# EAGLE library part MAX6971 (library Maxim6971)
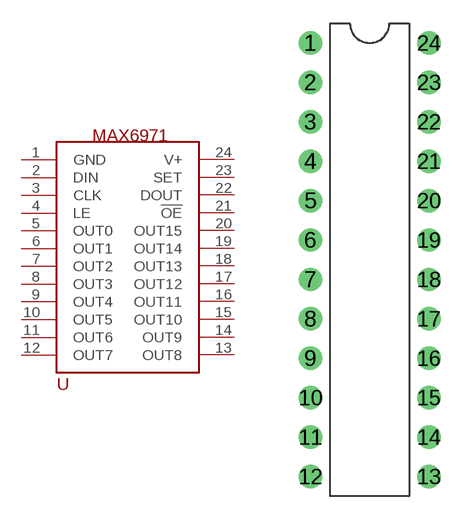
[diagram p0: symbol with the pads of DIP24; footprint DIP24]

Designator prefix -

## MAX6971  [DIP24]
1  GND
2  DIN
3  CLK
4  LE
5  OUT0
6  OUT1
7  OUT2
8  OUT3
9  OUT4
10  OUT5
11  OUT6
12  OUT7
13  OUT8
14  OUT9
15  OUT10
16  OUT11
17  OUT12
18  OUT13
19  OUT14
20  OUT15
21  !OE!
22  DOUT
23  SET
24  V+

## Footprint DIP24 (pad centres in mm)
drill 1: 1 -3.81,12.7; 2 -3.81,10.16; 3 -3.81,7.62; 4 -3.81,5.08; 5 -3.81,2.54; 6 -3.81,0; 7 -3.81,-2.54; 8 -3.81,-5.08; 9 -3.81,-7.62; 10 -3.81,-10.16; 11 -3.81,-12.7; 12 -3.81,-15.24; 13 3.81,-15.24; 14 3.81,-12.7; 15 3.81,-10.16; 16 3.81,-7.62; 17 3.81,-5.08; 18 3.81,-2.54; 19 3.81,0; 20 3.81,2.54; 21 3.81,5.08; 22 3.81,7.62; 23 3.81,10.16; 24 3.81,12.7